# Altium schematic symbol library BSZ034N04LS.SchLib: 1 symbol
Pins are listed as number, name and electrical type; pins without a type are passive.

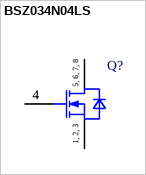
[diagram p0: symbol BSZ034N04LS]

## BSZ034N04LS
designator Q?  (value not drawn)
OptiMOS Power - MOSFET, 40 V; Manufacturer: Infineon Technologies; ManufacturerPartNumber: BSZ034N04LS; PackageReference: PG-TSDSON-8 FL
footprint INF-PG-TSDSON-8-FL
pins: 1 SOURCE, 2 SOURCE, 3 SOURCE, 4 GATE, 5 DRAIN, 6 DRAIN, 7 DRAIN, 8 DRAIN
text: 5, 6, 7, 8; 1, 2, 3